# Altium footprint library 温控PCB_0617F.PcbLib: 22 footprints (part 2 of 2)
Each footprint in its own frame and in the unit in brackets; x right, y up, seen from the top. Pads: shape width x height; smd on the part's side, far side on the other; paste and mask are expansions set on the pad; w line width, h text height; cw(c..) or ccw(c..) is an arc to the next point about the centre after c.
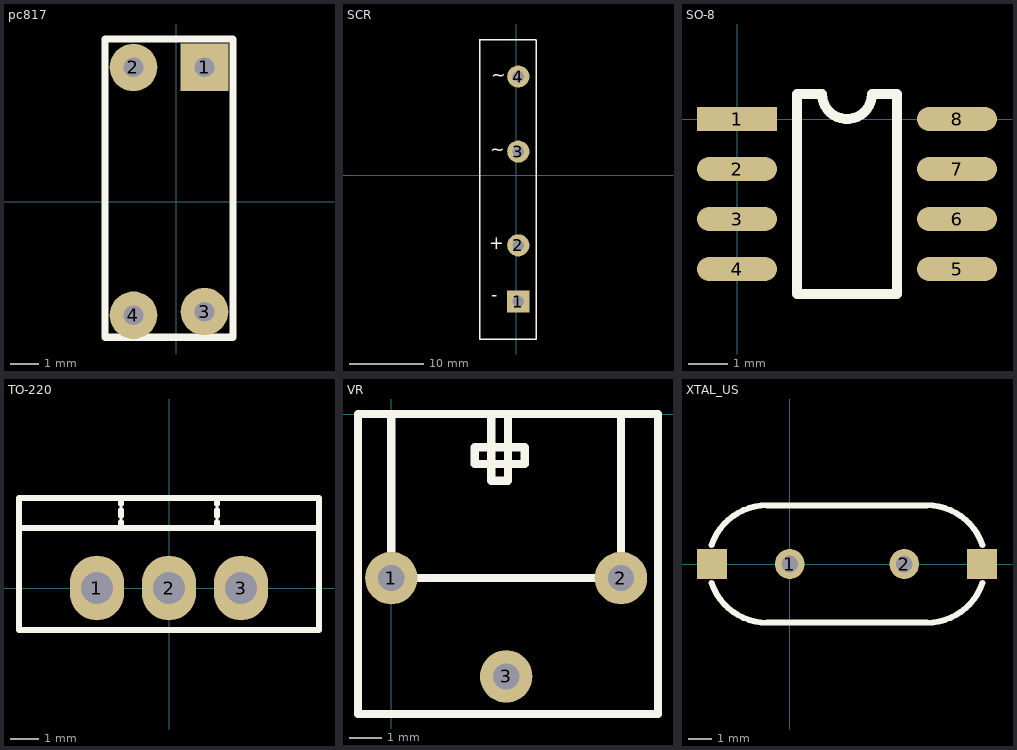
[diagram p1: the footprints below, top view; thin cyan lines are the x and y axes]

## pc817 [mm]
pads (4):
  rect 1.7x1.7 hole 0.7: 1(1.016,4.801)
  round 1.7 hole 0.7: 2(-1.524,4.801) 3(1.016,-3.937) 4(-1.524,-4.064)
Top Overlay:
  lines w0.254: 1.016,-4.724 1.143,-4.851 ; -2.54,-4.851 2.032,-4.851 2.032,5.817 -2.54,5.817 -2.54,-4.851

## SCR [mm]
pads (4):
  rect 3x3 hole 1.5 paste+0: 1(0.254,-17.145)
  round 3 hole 1.5: 2(0.254,-9.525) 3(0.254,3.175) 4(0.254,13.335)
Top Overlay:
  lines w0.2: -4.963,18.342 2.657,18.342 ; -4.933,18.415 -4.933,-18.415 -4.933,-22.183 -4.913,-22.203 2.687,-22.203 2.687,-18.415 ; 2.657,-18.588 2.657,-9.38 2.657,9.035 2.657,18.242
  text "~" at -3.556,2.032 h3
  text "~" at -3.429,12.065 h3
  text "-" at -3.429,-17.653 h3
  text "+" at -3.683,-10.668 h3

## SO-8 [mil]
pads (8):
  rect 80x24 smd: 1(0,0)
  oval 80x24 smd: 2(0,-50) 3(0,-100) 4(0,-150) 5(220,-150) 6(220,-100) 7(220,-50) 8(220,0)
Top Overlay:
  lines w10: 60,-175 160,-175 160,25 135,25 cw(c110,25) 85,25 60,25 60,-175

## TO-220 [mil]
pads (3):
  oval 75x90 hole 45: 1(-100,0) 2(0,0) 3(100,0)
Top Overlay:
  lines w7.87: -66.67,83.33 -66.67,91.67 ; -66.67,100 -66.67,108.33 ; -66.67,116.67 -66.67,125 ; 66.67,83.33 66.67,91.67 ; 66.67,100 66.67,108.33 ; 66.67,116.67 66.67,125 ; -208.33,83.33 -208.33,125 208.33,125 208.33,83.33 ; -208.33,83.33 -208.33,-58.33 208.33,-58.33 208.33,83.33 ; -208.33,83.33 208.33,83.33

## VR [mm]
pads (3):
  round 1.6 hole 0.8: 1(0,-5) 2(7,-5) 3(3.5,-8)
Top Overlay:
  lines w0.254: 3.048,0 3.048,-2.032 3.556,-2.032 3.556,0 ; 0,0 -1.016,0 -1.016,-9.144 8.128,-9.144 8.128,-7.62 8.128,0 7,0 ; 0,0 0,-5 7,-5 7,0 ; 0,0 7,0 ; 2.54,-1.524 2.54,-1.016 4.064,-1.016 4.064,-1.524 2.54,-1.524

## XTAL_US [mil]
pads (4):
  round 50 hole 28: 1(0,0) 2(192.13,0)
  rect 50x50 smd: ""(-130.32,0) ""(322.44,0)
Top Overlay:
  lines w10: -130.92,-31.85 ccw(c-37.79,0) -37.79,-98.42 ; -130.92,31.85 cw(c-37.79,0) -37.79,98.43 ; -38,98.42 229.92,98.43 cw(c229.92,0) 323.05,31.85 ; -37.8,-98.43 229.92,-98.42 ccw(c229.92,0) 323.05,-31.85